# EAGLE library part USB-MICRO-A-HOLES (library 00_koarl-div)
MICRO USB Connector Source: Molex
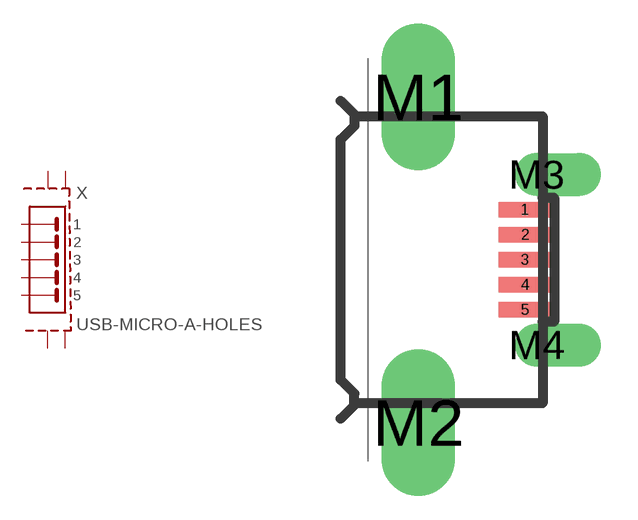
[diagram p16: symbol with the pads of MOLEX-SD-47589; footprint MOLEX-SD-47589]

Designator prefix X

## USB-MICRO-A-HOLES  [MOLEX-SD-47589]
1  1  in
2  2  in
3  3  in
4  4  in
5  5  in
M1  GND1
M2  GND2
M3  GND3
M4  GND4

## Footprint MOLEX-SD-47589 (pad centres in mm)
MICRO USB Connector Metal Shield SMD With Positioning Post Source: Molex
smd 1.35 x 0.4: 1 1.75,1.291; 2 1.75,0.645; 3 1.75,0; 4 1.75,-0.645; 5 1.75,-1.291
drill 1 pad 1.9 long: M1 -1,4.2; M2 -1,-4.2
drill 0.6 pad 0.813 offset: M3 2.05,2.2; M4 2.05,-2.2